# Altium footprint library NC-A GPS Hat.PcbLib: 5 footprints
Each footprint in its own frame and in the unit in brackets; x right, y up, seen from the top. Pads: shape width x height; smd on the part's side, far side on the other; paste and mask are expansions set on the pad; w line width, h text height; cw(c..) or ccw(c..) is an arc to the next point about the centre after c.
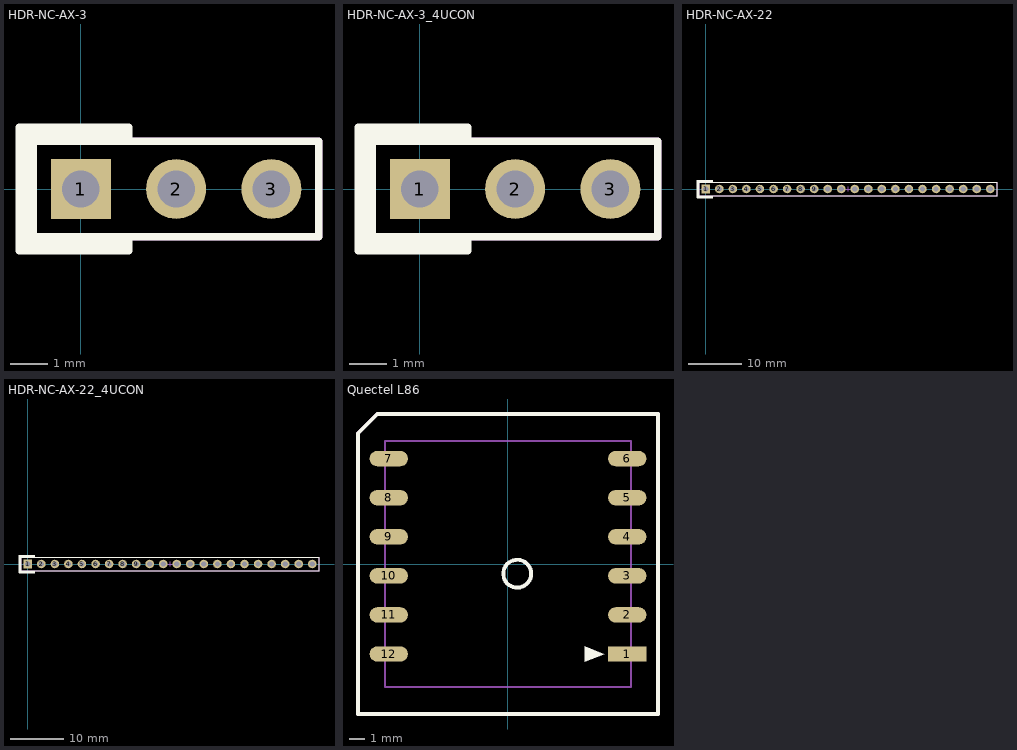
[diagram p0: the footprints below, top view; thin cyan lines are the x and y axes]

## HDR-NC-AX-3 [mm] "Header, 3pos, to Notecarrier AX"
pads (3):
  rect 1.6x1.6 hole 1: 1(0,0)
  round 1.6 hole 1: 2(2.54,0) 3(5.08,0)
Top Overlay:
  rectangle: -1.651,1.27 1.27,1.651
  rectangle: -1.651,-1.27 -1.27,1.27
  rectangle: -1.651,-1.651 1.27,-1.27
  lines w0.2: 1.27,-1.27 1.27,-1.651 -1.651,-1.651 -1.651,-1.27 ; 1.27,1.27 1.27,1.651 -1.651,1.651 -1.651,1.27 ; -1.651,-1.27 -1.27,-1.27 ; -1.651,-1.27 -1.651,-1.27 ; -1.651,-1.27 -1.651,1.27 ; -1.651,1.27 -1.27,1.27 ; -1.27,-1.27 6.35,-1.27 6.35,1.27 -1.27,1.27 ; -1.27,-1.27 -1.27,1.27 ; -1.27,1.27 -1.27,1.27
Top Component Outline:
  circle w0.254: c0,0 r0.635
  lines w0.2: -1.27,-1.27 6.35,-1.27 6.35,1.27 -1.27,1.27 -1.27,-1.27
Top Courtyard:
  lines w0.2: 2.159,0 2.54,0 ; 2.54,-0.381 2.54,0 ; 2.54,0.381 2.54,0 ; 2.921,0 2.54,0 ; -1.27,-1.27 -1.27,1.27 6.35,1.27 6.35,-1.27 -1.27,-1.27
3D body "TLW-103-06-T-S(0.3).stp": height 4.19, standoff -3.43, extent -1.27,-1.244 6.35,1.245

## HDR-NC-AX-3_4UCON [mm] "Header, 3pos, to Notecarrier AX, 2.5 mm body"
pads (3):
  rect 1.6x1.6 hole 1: 1(0,0)
  round 1.6 hole 1: 2(2.54,0) 3(5.08,0)
Top Overlay:
  rectangle: -1.651,-1.651 1.27,-1.27
  rectangle: -1.651,-1.27 -1.27,1.27
  rectangle: -1.651,1.27 1.27,1.651
  lines w0.2: 1.27,-1.27 1.27,-1.651 -1.651,-1.651 -1.651,-1.27 ; 1.27,1.27 1.27,1.651 -1.651,1.651 -1.651,1.27 ; -1.651,-1.27 -1.651,1.27 ; -1.651,-1.27 -1.651,-1.27 ; -1.651,-1.27 -1.27,-1.27 ; -1.651,1.27 -1.27,1.27 ; -1.27,-1.27 -1.27,1.27 ; -1.27,-1.27 6.35,-1.27 6.35,1.27 -1.27,1.27 ; -1.27,1.27 -1.27,1.27
Top Component Outline:
  circle w0.254: c0,0 r0.635
  lines w0.2: -1.27,-1.27 -1.27,1.27 6.35,1.27 6.35,-1.27 -1.27,-1.27
Top Courtyard:
  lines w0.2: 2.159,0 2.54,0 ; 2.54,-0.381 2.54,0 ; 2.54,0.381 2.54,0 ; 2.921,0 2.54,0 ; -1.27,-1.27 6.35,-1.27 6.35,1.27 -1.27,1.27 -1.27,-1.27
3D body "4UCON_HDR_03.stp": height 7, standoff -3, extent -1.25,-1.25 6.33,1.25

## HDR-NC-AX-22 [mm] "Header, 22 pos, to Notecarrier AX"
pads (22):
  rect 1.6x1.6 hole 1: 1(0,0)
  round 1.6 hole 1: 2(2.54,0) 3(5.08,0) 4(7.62,0) 5(10.16,0) 6(12.7,0) 7(15.24,0) 8(17.78,0) 9(20.32,0) 10(22.86,0) 11(25.4,0) 12(27.94,0) 13(30.48,0) 14(33.02,0) 15(35.56,0) 16(38.1,0) 17(40.64,0) 18(43.18,0) 19(45.72,0) 20(48.26,0) 21(50.8,0) 22(53.34,0)
Top Overlay:
  rectangle: -1.651,1.27 1.27,1.651
  rectangle: -1.651,-1.27 -1.27,1.27
  rectangle: -1.651,-1.651 1.27,-1.27
  lines w0.2: 1.27,-1.27 1.27,-1.651 -1.651,-1.651 -1.651,-1.27 ; 1.27,1.27 1.27,1.651 -1.651,1.651 -1.651,1.27 ; -1.651,-1.27 -1.27,-1.27 ; -1.651,-1.27 -1.651,-1.27 ; -1.651,-1.27 -1.651,1.27 ; -1.651,1.27 -1.27,1.27 ; -1.27,-1.27 54.61,-1.27 54.61,1.27 -1.27,1.27 ; -1.27,-1.27 -1.27,1.27 ; -1.27,1.27 -1.27,1.27
Top Component Outline:
  circle w0.254: c0,0 r0.635
  lines w0.2: -1.27,-1.27 -1.27,1.27 54.61,1.27 54.61,-1.27 -1.27,-1.27
Top Courtyard:
  lines w0.2: 26.289,0 26.67,0 ; 26.67,-0.381 26.67,0 ; 26.67,0.381 26.67,0 ; 27.051,0 26.67,0 ; -1.27,-1.27 -1.27,1.27 54.61,1.27 54.61,-1.27 -1.27,-1.27
3D body "TLW-122-06-T-S(0.3).stp": height 3.8, standoff -3.82, extent -1.27,-1.244 54.61,1.245

## HDR-NC-AX-22_4UCON [mm] "Header, 22 pos, to Notecarrier AX, 2.5mm body"
pads (22):
  rect 1.6x1.6 hole 1: 1(0,0)
  round 1.6 hole 1: 2(2.54,0) 3(5.08,0) 4(7.62,0) 5(10.16,0) 6(12.7,0) 7(15.24,0) 8(17.78,0) 9(20.32,0) 10(22.86,0) 11(25.4,0) 12(27.94,0) 13(30.48,0) 14(33.02,0) 15(35.56,0) 16(38.1,0) 17(40.64,0) 18(43.18,0) 19(45.72,0) 20(48.26,0) 21(50.8,0) 22(53.34,0)
Top Overlay:
  rectangle: -1.651,1.27 1.27,1.651
  rectangle: -1.651,-1.27 -1.27,1.27
  rectangle: -1.651,-1.651 1.27,-1.27
  lines w0.2: 1.27,-1.27 1.27,-1.651 -1.651,-1.651 -1.651,-1.27 ; 1.27,1.27 1.27,1.651 -1.651,1.651 -1.651,1.27 ; -1.651,-1.27 -1.27,-1.27 ; -1.651,-1.27 -1.651,-1.27 ; -1.651,-1.27 -1.651,1.27 ; -1.651,1.27 -1.27,1.27 ; -1.27,-1.27 54.61,-1.27 54.61,1.27 -1.27,1.27 ; -1.27,-1.27 -1.27,1.27 ; -1.27,1.27 -1.27,1.27
Top Component Outline:
  circle w0.254: c0,0 r0.635
  lines w0.2: -1.27,-1.27 -1.27,1.27 54.61,1.27 54.61,-1.27 -1.27,-1.27
Top Courtyard:
  lines w0.2: 26.289,0 26.67,0 ; 26.67,-0.381 26.67,0 ; 26.67,0.381 26.67,0 ; 27.051,0 26.67,0 ; -1.27,-1.27 -1.27,1.27 54.61,1.27 54.61,-1.27 -1.27,-1.27
3D body "4UCON_HDR_22.stp": height 7.01, standoff -2.99, extent -1.25,-1.25 54.59,1.25

## Quectel L86 [mm] "Quectel L86 Module"
pads (12):
  rect 2.5x1 smd: 1(7.75,-5.85)
  oval 2.5x1 smd: 2(7.75,-3.31) 3(7.75,-0.77) 4(7.75,1.77) 5(7.75,4.31) 6(7.75,6.85) 7(-7.75,6.85) 8(-7.75,4.31) 9(-7.75,1.77) 10(-7.75,-0.77) 11(-7.75,-3.31) 12(-7.75,-5.85)
Top Overlay:
  circle w0.254: c0.6,-0.63 r0.906
  region: 6.25,-5.85 5,-5.35 5,-6.35
  lines w0.254: -9.75,-9.75 9.75,-9.75 9.75,9.75 -8.5,9.75 -9.75,8.5 -9.75,-9.75
Top Component Outline:
  lines w0.127: -8,-8 -8,8 8,8 8,-8 -8,-8
  lines w0.254: -9.75,-9.75 -9.75,8.5 -8.5,9.75 9.75,9.75 9.75,-9.75 -9.75,-9.75
3D body "L86 GPS Module-1.STP": height 7.44, standoff -0.02, extent -9.2,-9.2 9.2,9.2